# Altium footprint library 532617002.PcbLib: 1 footprints
Each footprint in its own frame and in the unit in brackets; x right, y up, seen from the top. Pads: shape width x height; smd on the part's side, far side on the other; paste and mask are expansions set on the pad; w line width, h text height; cw(c..) or ccw(c..) is an arc to the next point about the centre after c.
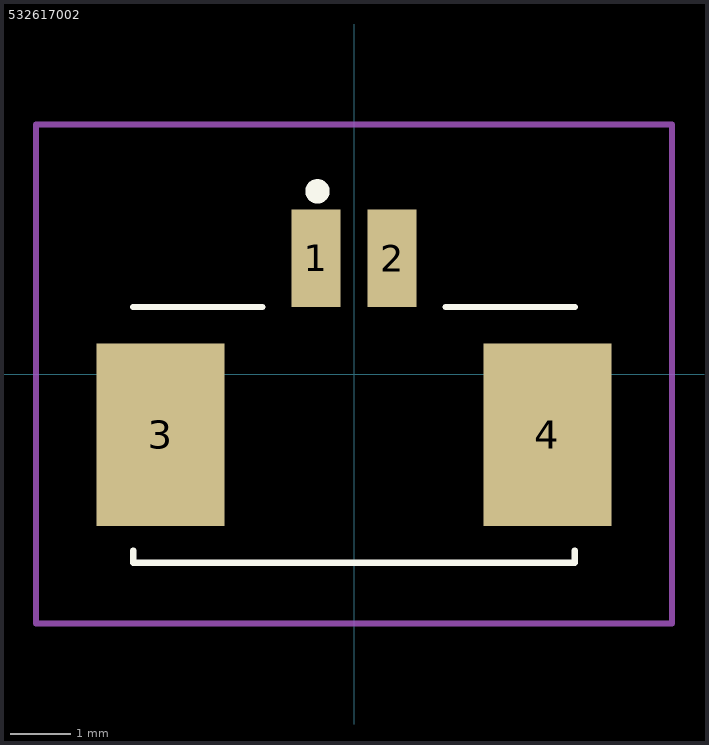
[diagram p0: the footprint, top view; thin cyan lines are the x and y axes]

## 532617002 [mm]
pads (4):
  rect 0.8x1.6 smd: 1(-0.625,1.9) 2(0.625,1.9)
  rect 2.1x3 smd: 3(-3.175,-1) 4(3.175,-1)
Top Overlay:
  lines w0.1: -3.625,-2.9 -3.625,-3.1 3.625,-3.1 3.625,-2.9 ; -3.625,1.1 -1.5,1.1 ; 1.5,1.1 3.625,1.1
  lines w0.2: -0.7,3 cw(c-0.6,3) -0.5,3 cw(c-0.6,3) -0.7,3
Mechanical 20:
  lines w0.1: -5.225,-4.1 -5.225,4.1 5.225,4.1 5.225,-4.1 -5.225,-4.1
3D body "53261-7002.stp": height 3.38, standoff -0.02, extent -3.825,-2.753 3.825,2.447